# Altium footprint library IMM-NRF5x.PcbLib: 8 footprints
Each footprint in its own frame and in the unit in brackets; x right, y up, seen from the top. Pads: shape width x height; smd on the part's side, far side on the other; paste and mask are expansions set on the pad; w line width, h text height; cw(c..) or ccw(c..) is an arc to the next point about the centre after c.
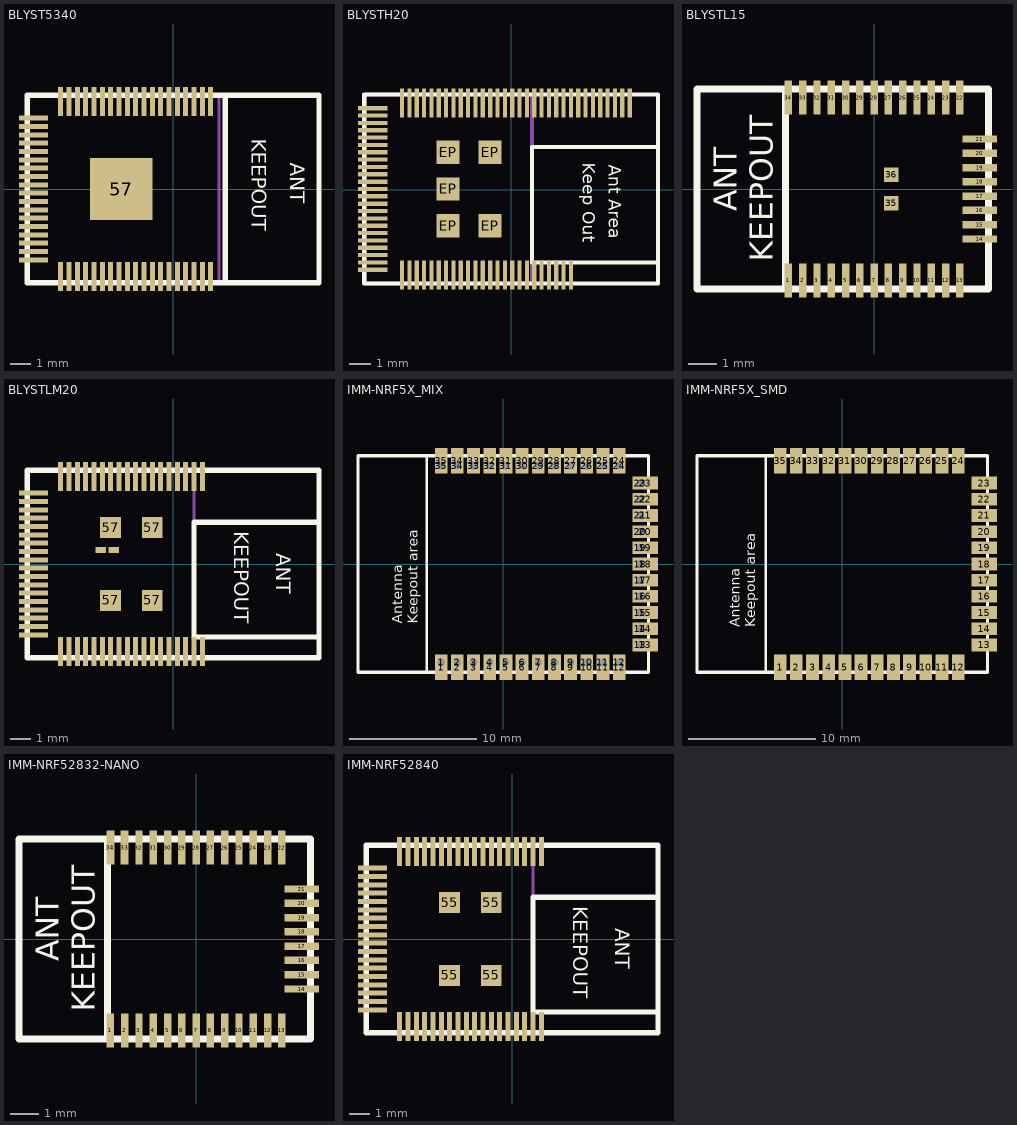
[diagram p0: the footprints below, top view; thin cyan lines are the x and y axes]

## BLYST5340 [mm] "BLYST5340 BLE5 module"
height 1.6
pads (57):
  rect 0.24x1.4 smd: 1(1.8,4.2) 2(1.4,4.2) 3(1,4.2) 4(0.6,4.2) 5(0.2,4.2) 6(-0.2,4.2) 7(-0.6,4.2) 8(-1,4.2) 9(-1.4,4.2) 10(-1.8,4.2) 11(-2.2,4.2) 12(-2.6,4.2) 13(-3,4.2) 14(-3.4,4.2) 15(-3.8,4.2) 16(-4.2,4.2) 17(-4.6,4.2) 18(-5,4.2) 19(-5.4,4.2) 38(-5.4,-4.2) 39(-5,-4.2) 40(-4.6,-4.2) 41(-4.2,-4.2) 42(-3.8,-4.2) 43(-3.4,-4.2) 44(-3,-4.2) 45(-2.6,-4.2) 46(-2.2,-4.2) 47(-1.8,-4.2) 48(-1.4,-4.2) 49(-1,-4.2) 50(-0.6,-4.2) 51(-0.2,-4.2) 52(0.2,-4.2) 53(0.6,-4.2) 54(1,-4.2) 55(1.4,-4.2) 56(1.8,-4.2)
  rect 1.4x0.24 smd: 20(-6.7,3.4) 21(-6.7,3) 22(-6.7,2.6) 23(-6.7,2.2) 24(-6.7,1.8) 25(-6.7,1.4) 26(-6.7,1) 27(-6.7,0.6) 28(-6.7,0.2) 29(-6.7,-0.2) 30(-6.7,-0.6) 31(-6.7,-1) 32(-6.7,-1.4) 33(-6.7,-1.8) 34(-6.7,-2.2) 35(-6.7,-2.6) 36(-6.7,-3) 37(-6.7,-3.4)
  rect 3x3 smd paste-0.6: 57(-2.5,0)
Top Overlay:
  lines w0.254: 2.5,-4.5 2.5,4.5 ; -7,-4.5 -7,4.5 7,4.5 7,-4.5 -7,-4.5
  text "KEEPOUT" at 3.775,2.4 h0.7
  text "ANT" at 5.625,1.25 h0.7
Mechanical 1:
  lines w0.15: 0.9,4.475 1,4.375 ; 2.2,4.375 2.2,-4.5 -6.975,-4.5 -6.975,4.475 2.2,4.475
Multi-Layer:
  pour cut-out: 2.5,4.5 2.5,-4.5 7,-4.5 7,4.5
3D body: height 0.5, standoff 0.01, extent -7.127,-4.627 7.127,4.627
3D body: height 1.1, standoff 0, extent -7.05,-4.575 2.275,4.55

## BLYSTH20 [mm] "Nordic nRF54H20 based module. BLE/Zigbee/Threads"
height 1.6
pads (84):
  rect 0.2x1.4 smd: 1(5.65,4.125) 2(5.3,4.125) 3(4.95,4.125) 4(4.6,4.125) 5(4.25,4.125) 6(3.9,4.125) 7(3.55,4.125) 8(3.2,4.125) 9(2.85,4.125) 10(2.5,4.125) 11(2.15,4.125) 12(1.8,4.125) 13(1.45,4.125) 14(1.1,4.125) 15(0.75,4.125) 16(0.4,4.125) 17(0.05,4.125) 18(-0.3,4.125) 19(-0.65,4.125) 20(-1,4.125) 21(-1.35,4.125) 22(-1.7,4.125) 23(-2.05,4.125) 24(-2.4,4.125) 25(-2.75,4.125) 26(-3.1,4.125) 27(-3.45,4.125) 28(-3.8,4.125) 29(-4.15,4.125) 30(-4.5,4.125) 31(-4.85,4.125) 32(-5.2,4.125) 56(-5.2,-4.075) 57(-4.85,-4.075) 58(-4.5,-4.075) 59(-4.15,-4.075) 60(-3.8,-4.075) 61(-3.45,-4.075) 62(-3.1,-4.075) 63(-2.75,-4.075) 64(-2.4,-4.075) 65(-2.05,-4.075) 66(-1.7,-4.075) 67(-1.35,-4.075) 68(-1,-4.075) 69(-0.65,-4.075) 70(-0.3,-4.075) 71(0.05,-4.075) 72(0.4,-4.075) 73(0.75,-4.075) 74(1.1,-4.075) 75(1.45,-4.075) 76(1.8,-4.075) 77(2.15,-4.075) 78(2.5,-4.075) 79(2.85,-4.075)
  rect 1.4x0.2 smd: 33(-6.6,3.875) 34(-6.6,3.525) 35(-6.6,3.175) 36(-6.6,2.825) 37(-6.6,2.475) 38(-6.6,2.125) 39(-6.6,1.775) 40(-6.6,1.425) 41(-6.6,1.075) 42(-6.6,0.725) 43(-6.6,0.375) 44(-6.6,0.025) 45(-6.6,-0.325) 46(-6.6,-0.675) 47(-6.6,-1.025) 48(-6.6,-1.375) 49(-6.6,-1.725) 50(-6.6,-2.075) 51(-6.6,-2.425) 52(-6.6,-2.775) 53(-6.6,-3.125) 54(-6.6,-3.475) 55(-6.6,-3.825)
  rect 1.1x1.1 smd: EP(-3,-1.725) EP(-3,0.025) EP(-3,1.775) EP(-1,-1.725) EP(-1,1.775)
Top Overlay:
  lines w0.2: 7,-3.475 1,-3.475 1,2.025 7,2.025 ; -7,-4.475 7,-4.475 7,4.525 -7,4.525 -7,-4.475
  text "Ant Area" at 4.461,1.175 h1
  text "Keep Out" at 3.226,1.275 h1
Mechanical 1:
  lines w0.2: -7,-4.475 -7,4.525 1,4.525 1,-4.475 -7,-4.475
Multi-Layer:
  pour cut-out: 1,2.025 1,-3.475 7,-3.475 7,2.025
3D body: height 1.6, standoff 0.5, extent -6.999,-4.474 0.999,4.524
3D body: height 0.5, standoff 0.01, extent -7.1,-4.575 7.1,4.625

## BLYSTL15 [mm] "nRF54L15 Bluetooth LE Module"
height 1.6
pads (36):
  rect 0.26x1.2 smd: 1(-3,-3.2) 2(-2.5,-3.2) 3(-2,-3.2) 4(-1.5,-3.2) 5(-1,-3.2) 6(-0.5,-3.2) 7(0,-3.2) 8(0.5,-3.2) 9(1,-3.2) 10(1.5,-3.2) 11(2,-3.2) 12(2.5,-3.2) 13(3,-3.2) 22(3,3.2) 23(2.5,3.2) 24(2,3.2) 25(1.5,3.2) 26(1,3.2) 27(0.5,3.2) 28(0,3.2) 29(-0.5,3.2) 30(-1,3.2) 31(-1.5,3.2) 32(-2,3.2) 33(-2.5,3.2) 34(-3,3.2)
  rect 1.2x0.26 smd: 14(3.7,-1.75) 15(3.7,-1.25) 16(3.7,-0.75) 17(3.7,-0.25) 18(3.7,0.25) 19(3.7,0.75) 20(3.7,1.25) 21(3.7,1.75)
  rect 0.5x0.5 smd: 35(0.6,-0.5) 36(0.6,0.5)
Top Overlay:
  lines w0.254: -3.1,-3.5 -3.1,3.5 ; -6.2,-3.5 4,-3.5 4,3.5 -6.2,3.5 -6.2,-3.5
  text "ANT" at -4.8,-0.775 h0.8
  text "KEEPOUT" at -3.55,-2.55 h0.8
Multi-Layer:
  pour cut-out: -6.2,3.475 -3.1,3.475 -3.1,-3.5 -6.175,-3.5 -6.2,-3.525
3D body: height 0.5, standoff 0.01, extent -6.327,-3.627 4.127,3.627
3D body: height 1.6, standoff 0.5, extent -3.099,-3.499 3.999,3.499

## BLYSTLM20 [mm] "BLYSTLM20 ANT+, BLE5 module"
height 1.6
pads (60):
  rect 0.24x1.4 smd: 1(1.4,4.2) 2(1,4.2) 3(0.6,4.2) 4(0.2,4.2) 5(-0.2,4.2) 6(-0.6,4.2) 7(-1,4.2) 8(-1.4,4.2) 9(-1.8,4.2) 10(-2.2,4.2) 11(-2.6,4.2) 12(-3,4.2) 13(-3.4,4.2) 14(-3.8,4.2) 15(-4.2,4.2) 16(-4.6,4.2) 17(-5,4.2) 18(-5.4,4.2) 37(-5.4,-4.2) 38(-5,-4.2) 39(-4.6,-4.2) 40(-4.2,-4.2) 41(-3.8,-4.2) 42(-3.4,-4.2) 43(-3,-4.2) 44(-2.6,-4.2) 45(-2.2,-4.2) 46(-1.8,-4.2) 47(-1.4,-4.2) 48(-1,-4.2) 49(-0.6,-4.2) 50(-0.2,-4.2) 51(0.2,-4.2) 52(0.6,-4.2) 53(1,-4.2) 54(1.4,-4.2)
  rect 1.4x0.24 smd: 19(-6.7,3.4) 20(-6.7,3) 21(-6.7,2.6) 22(-6.7,2.2) 23(-6.7,1.8) 24(-6.7,1.4) 25(-6.7,1) 26(-6.7,0.6) 27(-6.7,0.2) 28(-6.7,-0.2) 29(-6.7,-0.6) 30(-6.7,-1) 31(-6.7,-1.4) 32(-6.7,-1.8) 33(-6.7,-2.2) 34(-6.7,-2.6) 35(-6.7,-3) 36(-6.7,-3.4)
  rect 0.5x0.3 smd paste-0.2: 55(-2.85,0.67) 56(-3.475,0.67)
  rect 1x1 smd paste-0.2: 57(-3,-1.75) 57(-3,1.75) 57(-1,-1.75) 57(-1,1.75)
Top Overlay:
  lines w0.254: 7,-3.5 1,-3.5 1,2 7,2 ; -7,-4.5 -7,4.5 7,4.5 7,-4.5 -7,-4.5
  text "KEEPOUT" at 2.925,1.575 h0.7
  text "ANT" at 4.95,0.525 h0.7
Mechanical 1:
  lines w0.15: -6.975,-4.5 1,-4.5 1,4.375 0.9,4.475 -6.975,4.475 -6.975,-4.5
Multi-Layer:
  pour cut-out: 1,2 1,-3.475 7,-3.475 7,2
3D body: height 0.5, standoff 0.01, extent -7.127,-4.627 7.127,4.627
3D body: height 1.6, standoff 0.5, extent -6.976,-4.501 1.001,4.476

## IMM-NRF5X_MIX [mm] "IMM-NRF5X mixed SMD & Throughhole"
height 2
pads (70):
  rect 1x2 smd: 1(-4.87,-8.1) 2(-3.6,-8.1) 3(-2.33,-8.1) 4(-1.06,-8.1) 5(0.21,-8.1) 6(1.48,-8.1) 7(2.75,-8.1) 8(4.02,-8.1) 9(5.29,-8.1) 10(6.56,-8.1) 11(7.83,-8.1) 12(9.1,-8.1) 24(9.1,8.1) 25(7.83,8.1) 26(6.56,8.1) 27(5.29,8.1) 28(4.02,8.1) 29(2.75,8.1) 30(1.48,8.1) 31(0.21,8.1) 32(-1.06,8.1) 33(-2.33,8.1) 34(-3.6,8.1) 35(-4.87,8.1)
  oval 1x1.2 hole 0.6: 1(-4.87,-7.7) 2(-3.6,-7.7) 3(-2.33,-7.7) 4(-1.06,-7.7) 5(0.21,-7.7) 6(1.48,-7.7) 7(2.75,-7.7) 8(4.02,-7.7) 9(5.29,-7.7) 10(6.56,-7.7) 11(7.83,-7.7) 12(9.1,-7.7) 24(9.1,7.7) 25(7.83,7.7) 26(6.56,7.7) 27(5.29,7.7) 28(4.02,7.7) 29(2.75,7.7) 30(1.48,7.7) 31(0.21,7.7) 32(-1.06,7.7) 33(-2.33,7.7) 34(-3.6,7.7) 35(-4.87,7.7)
  oval 1.2x1 hole 0.6: 13(10.75,-6.35) 14(10.75,-5.08) 15(10.75,-3.81) 16(10.75,-2.54) 17(10.75,-1.27) 18(10.75,0) 19(10.75,1.27) 20(10.75,2.54) 21(10.75,3.81) 22(10.75,5.08) 23(10.75,6.35)
  rect 2x1 smd: 13(11.15,-6.35) 14(11.15,-5.08) 15(11.15,-3.81) 16(11.15,-2.54) 17(11.15,-1.27) 18(11.15,0) 19(11.15,1.27) 20(11.15,2.54) 21(11.15,3.81) 22(11.15,5.08) 23(11.15,6.35)
Top Overlay:
  lines w0.2: -6,-8.5 -6,8.5
  lines w0.254: -11.4,-8.5 11.4,-8.5 11.4,8.5 -11.4,8.5 -11.4,-8.5
  text "Antenna / Keepout area" at -6.725,-4.675 h0.8

## IMM-NRF5X_SMD [mm] "IMM-NRF51822, IMM-NRF51422, IMM-NRF52832 SMD"
height 2
pads (35):
  rect 1x2 smd: 1(-4.87,-8.1) 2(-3.6,-8.1) 3(-2.33,-8.1) 4(-1.06,-8.1) 5(0.21,-8.1) 6(1.48,-8.1) 7(2.75,-8.1) 8(4.02,-8.1) 9(5.29,-8.1) 10(6.56,-8.1) 11(7.83,-8.1) 12(9.1,-8.1) 24(9.1,8.1) 25(7.83,8.1) 26(6.56,8.1) 27(5.29,8.1) 28(4.02,8.1) 29(2.75,8.1) 30(1.48,8.1) 31(0.21,8.1) 32(-1.06,8.1) 33(-2.33,8.1) 34(-3.6,8.1) 35(-4.87,8.1)
  rect 2x1 smd: 13(11.15,-6.35) 14(11.15,-5.08) 15(11.15,-3.81) 16(11.15,-2.54) 17(11.15,-1.27) 18(11.15,0) 19(11.15,1.27) 20(11.15,2.54) 21(11.15,3.81) 22(11.15,5.08) 23(11.15,6.35)
Top Overlay:
  lines w0.2: -6,-8.5 -6,8.5
  lines w0.254: -11.4,-8.5 -11.4,8.5 11.4,8.5 11.4,-8.5 -11.4,-8.5
  text "Antenna / Keepout area" at -6.825,-4.95 h0.8

## IMM-NRF52832-NANO [mm] "nRF52832 Bluetooth LE Nano Module"
height 1.6
pads (34):
  rect 0.26x1.2 smd: 1(-3,-3.2) 2(-2.5,-3.2) 3(-2,-3.2) 4(-1.5,-3.2) 5(-1,-3.2) 6(-0.5,-3.2) 7(0,-3.2) 8(0.5,-3.2) 9(1,-3.2) 10(1.5,-3.2) 11(2,-3.2) 12(2.5,-3.2) 13(3,-3.2) 22(3,3.2) 23(2.5,3.2) 24(2,3.2) 25(1.5,3.2) 26(1,3.2) 27(0.5,3.2) 28(0,3.2) 29(-0.5,3.2) 30(-1,3.2) 31(-1.5,3.2) 32(-2,3.2)
  rect 1.2x0.26 smd: 14(3.7,-1.75) 15(3.7,-1.25) 16(3.7,-0.75) 17(3.7,-0.25) 18(3.7,0.25) 19(3.7,0.75) 20(3.7,1.25) 21(3.7,1.75)
  rect 0.28x1.2 smd: 33(-2.5,3.2) 34(-3,3.2)
Top Overlay:
  lines w0.254: -3.1,-3.5 -3.1,3.5 ; -6.2,-3.5 4,-3.5 4,3.5 -6.2,3.5 -6.2,-3.5
  text "ANT" at -4.8,-0.775 h0.8
  text "KEEPOUT" at -3.55,-2.55 h0.8
Multi-Layer:
  pour cut-out: -6.2,3.475 -3.1,3.475 -3.1,-3.5 -6.175,-3.5 -6.2,-3.525
3D body: height 0.5, standoff 0.01, extent -6.327,-3.627 4.127,3.627
3D body: height 1.6, standoff 0.5, extent -3.099,-3.499 3.999,3.499

## IMM-NRF52840 [mm] "IMM-NRF52840 ANT+, BLE5 module"
height 1.6
pads (58):
  rect 0.24x1.4 smd: 1(1.4,4.2) 2(1,4.2) 3(0.6,4.2) 4(0.2,4.2) 5(-0.2,4.2) 6(-0.6,4.2) 7(-1,4.2) 8(-1.4,4.2) 9(-1.8,4.2) 10(-2.2,4.2) 11(-2.6,4.2) 12(-3,4.2) 13(-3.4,4.2) 14(-3.8,4.2) 15(-4.2,4.2) 16(-4.6,4.2) 17(-5,4.2) 18(-5.4,4.2) 37(-5.4,-4.2) 38(-5,-4.2) 39(-4.6,-4.2) 40(-4.2,-4.2) 41(-3.8,-4.2) 42(-3.4,-4.2) 43(-3,-4.2) 44(-2.6,-4.2) 45(-2.2,-4.2) 46(-1.8,-4.2) 47(-1.4,-4.2) 48(-1,-4.2) 49(-0.6,-4.2) 50(-0.2,-4.2) 51(0.2,-4.2) 52(0.6,-4.2) 53(1,-4.2) 54(1.4,-4.2)
  rect 1.4x0.24 smd: 19(-6.7,3.4) 20(-6.7,3) 21(-6.7,2.6) 22(-6.7,2.2) 23(-6.7,1.8) 24(-6.7,1.4) 25(-6.7,1) 26(-6.7,0.6) 27(-6.7,0.2) 28(-6.7,-0.2) 29(-6.7,-0.6) 30(-6.7,-1) 31(-6.7,-1.4) 32(-6.7,-1.8) 33(-6.7,-2.2) 34(-6.7,-2.6) 35(-6.7,-3) 36(-6.7,-3.4)
  rect 1x1 smd paste-0.2: 55(-3,-1.75) 55(-3,1.75) 55(-1,-1.75) 55(-1,1.75)
Top Overlay:
  lines w0.254: 7,-3.5 1,-3.5 1,2 7,2 ; -7,-4.5 7,-4.5 7,4.5 -7,4.5 -7,-4.5
  text "ANT" at 4.95,0.525 h0.7
  text "KEEPOUT" at 2.925,1.575 h0.7
Mechanical 1:
  lines w0.15: -6.975,-4.5 -6.975,4.475 0.9,4.475 1,4.375 1,-4.5 -6.975,-4.5
Multi-Layer:
  pour cut-out: 1,2 1,-3.475 7,-3.475 7,2
3D body: height 1.6, standoff 0.5, extent -6.976,-4.501 1.001,4.476
3D body: height 0.5, standoff 0.01, extent -7.127,-4.627 7.127,4.627